# Altium integrated library IC.IntLib: 4 symbols
Pins are listed as number, name and electrical type; pins without a type are passive.

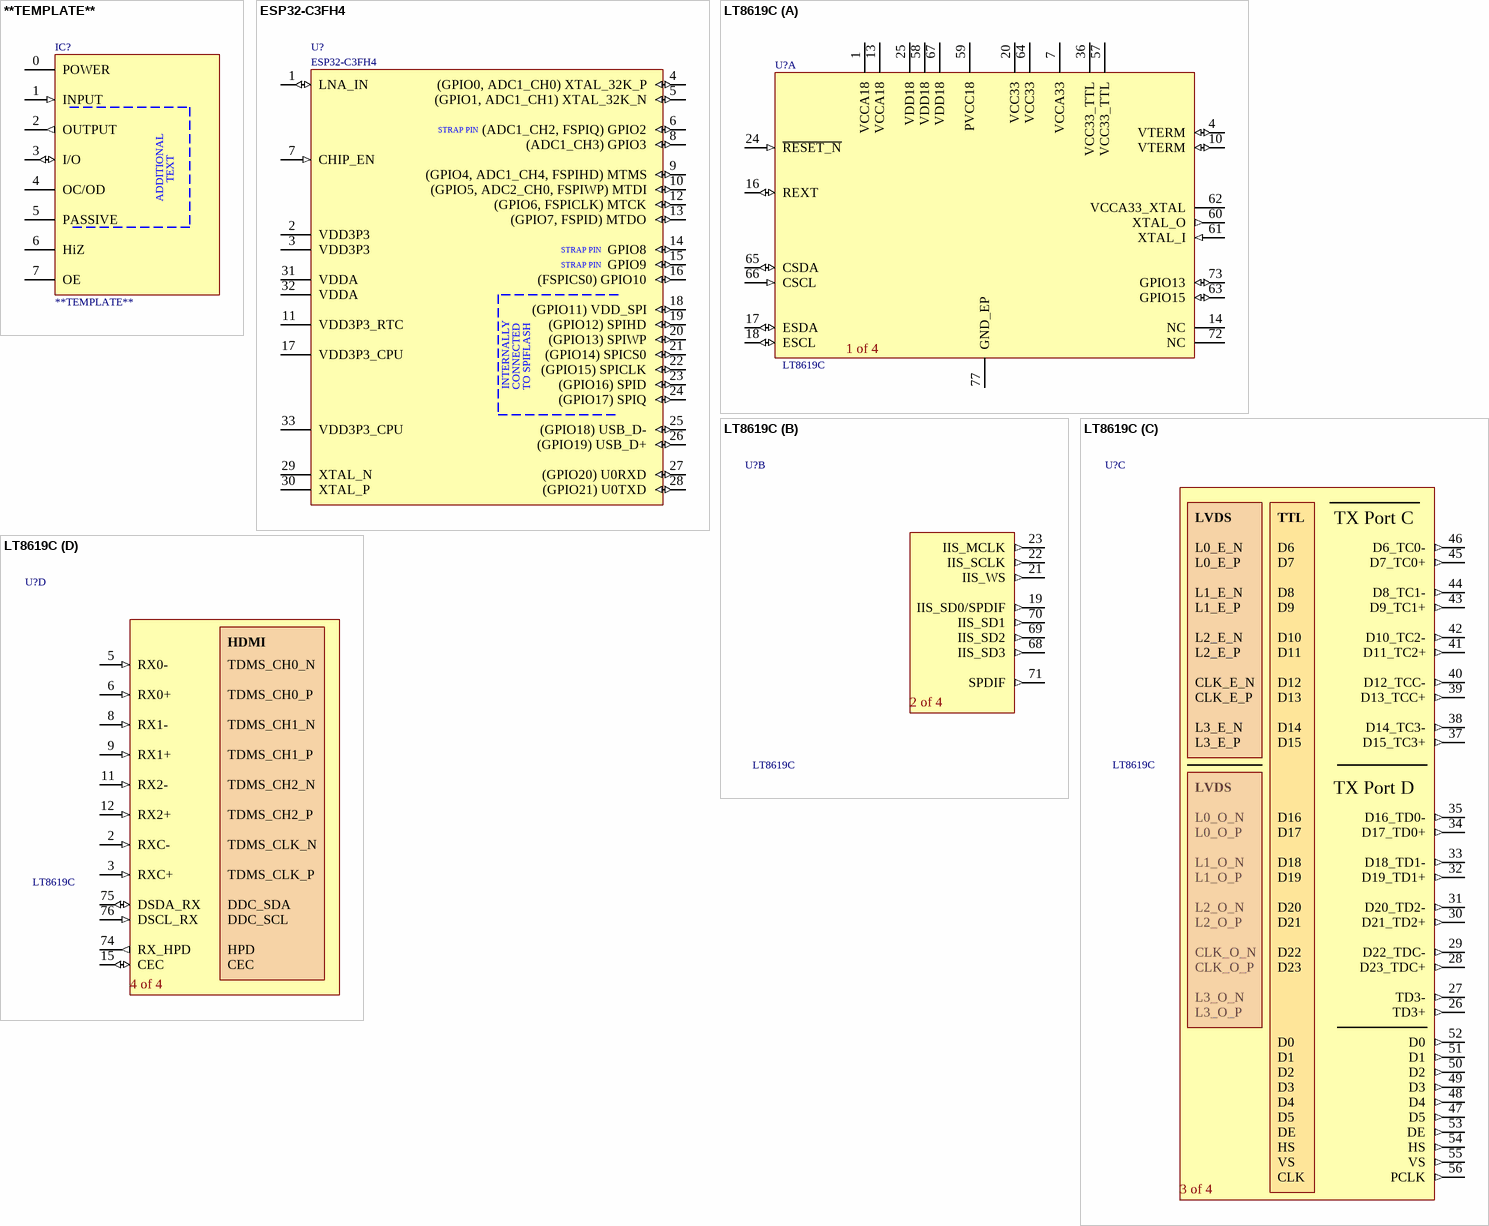
[diagram p0: symbols **TEMPLATE** to LT8619C]

## **TEMPLATE**
designator IC?
PLEASE COPY TO CREATE NEW COMPONENT; Function: *; Package: *; Mounting Type: *; Manufacturer 1: *; Part Number 1: *; Manufacturer 2: *; Part Number 2: *
pins: 0 POWER (power), 1 INPUT (in), 2 OUTPUT (out), 3 I/O (io), 4 OC/OD (oc), 5 PASSIVE (oc), 6 HiZ (hiz), 7 OE (oe)
text: ADDITIONAL; TEXT

## ESP32-C3FH4
designator U?
Ultra-Low-Power SoC with RISC-V Single-Core CPU 2.4 GHz Wi-Fi (802.11b/g/n) and Bluetooth® 5 (LE) 4 MB flash in the chip’s package QFN32 (5×5 mm) package; Manufacturer 1: Espressif; Function: Microcontroller; Package: QFN32 (5x5mm); Mounting Type: SMT; Part Number 1: ESP32-C3FH4; Manufacturer 2: N/A; Part Number 2: N/A
footprint EPS32-C3FH4_QFN32_5X5mm (QFN32 (5×5 mm) package)
pins: 1 LNA_IN (io), 2 VDD3P3 (power), 3 VDD3P3 (power), 4 (GPIO0, ADC1_CH0) XTAL_32K_P (io), 5 (GPIO1, ADC1_CH1) XTAL_32K_N (io), 6 (ADC1_CH2, FSPIQ) GPIO2 (io), 7 CHIP_EN (in), 8 (ADC1_CH3) GPIO3 (io), 9 (GPIO4, ADC1_CH4, FSPIHD) MTMS (io), 10 (GPIO5, ADC2_CH0, FSPIWP) MTDI (io), 11 VDD3P3_RTC (power), 12 (GPIO6, FSPICLK) MTCK (io), 13 (GPIO7, FSPID) MTDO (io), 14 GPIO8 (io), 15 GPIO9 (io), 16 (FSPICS0) GPIO10 (io), 17 VDD3P3_CPU (power), 18 (GPIO11) VDD_SPI (io), 19 (GPIO12) SPIHD (io), 20 (GPIO13) SPIWP (io), 21 (GPIO14) SPICS0 (io), 22 (GPIO15) SPICLK (io), 23 (GPIO16) SPID (io), 24 (GPIO17) SPIQ (io), 25 (GPIO18) USB_D- (io), 26 (GPIO19) USB_D+ (io), 27 (GPIO20) U0RXD (io), 28 (GPIO21) U0TXD (io), 29 XTAL_N, 30 XTAL_P, 31 VDDA (power), 32 VDDA (power), 33 VDD3P3_CPU (power)
text: STRAP PIN; INTERNALLY; CONNECTED; TO SPIFLASH

## LT8619C
designator U?
Lontium LT8619C HDMI to TTL/LVDS Converter; Function: Video signal converter; Package: QFN76 (9x9mm); Mounting Type: SMT; Manufacturer 1: Lontium; Manufacturer 2: N/A; Part Number 2: N/A; Part Number 1: LT8619C
footprint LT8619C_QFN76_9x9MM (HDMI to LVDS,TTL converter)
part A pins: 1 VCCA18 (power), 4 VTERM (io), 7 VCCA33 (power), 10 VTERM (io), 13 VCCA18 (power), 14 NC, 16 REXT (io), 17 ESDA (io), 18 ESCL (io), 20 VCC33 (power), 24 ~{RESET_N} (in), 25 VDD18 (power), 36 VCC33_TTL (power), 57 VCC33_TTL (power), 58 VDD18 (power), 59 PVCC18 (power), 60 XTAL_O (out), 61 XTAL_I (in), 62 VCCA33_XTAL (power), 63 GPIO15 (io), 64 VCC33 (power), 65 CSDA (io), 66 CSCL (in), 67 VDD18 (power), 72 NC, 73 GPIO13 (io), 77 GND_EP (power)
part B pins: 19 IIS_SD0/SPDIF (out), 21 IIS_WS (out), 22 IIS_SCLK (out), 23 IIS_MCLK (out), 68 IIS_SD3 (out), 69 IIS_SD2 (out), 70 IIS_SD1 (out), 71 SPDIF (out)
part C pins: 26 TD3+ (out), 27 TD3- (out), 28 D23_TDC+ (out), 29 D22_TDC- (out), 30 D21_TD2+ (out), 31 D20_TD2- (out), 32 D19_TD1+ (out), 33 D18_TD1- (out), 34 D17_TD0+ (out), 35 D16_TD0- (out), 37 D15_TC3+ (out), 38 D14_TC3- (out), 39 D13_TCC+ (out), 40 D12_TCC- (out), 41 D11_TC2+ (out), 42 D10_TC2- (out), 43 D9_TC1+ (out), 44 D8_TC1- (out), 45 D7_TC0+ (out), 46 D6_TC0- (out), 47 D5 (out), 48 D4 (out), 49 D3 (out), 50 D2 (out), 51 D1 (out), 52 D0 (out), 53 DE (out), 54 HS (out), 55 VS (out), 56 PCLK (out)
part D pins: 2 RXC- (in), 3 RXC+ (in), 5 RX0- (in), 6 RX0+ (in), 8 RX1- (in), 9 RX1+ (in), 11 RX2- (in), 12 RX2+ (in), 15 CEC (io), 74 RX_HPD (out), 75 DSDA_RX (io), 76 DSCL_RX (in)
part A text: 1 of 4
part B text: 2 of 4
part C text: LVDS; TTL; TX Port C; L0_E_N; D6; L0_E_P; D7; L1_E_N; D8; L1_E_P; D9; L2_E_N; D10; L2_E_P; D11; CLK_E_N; D12; CLK_E_P; D13; L3_E_N; D14; L3_E_P; D15; TX Port D; L0_O_N; D16; L0_O_P; D17; L1_O_N; D18; L1_O_P; D19; L2_O_N; D20; L2_O_P; D21; CLK_O_N; D22; CLK_O_P; D23; L3_O_N; L3_O_P; CLK; 3 of 4
part D text: HDMI; TDMS_CH0_N; TDMS_CH0_P; TDMS_CH1_N; TDMS_CH1_P; TDMS_CH2_N; TDMS_CH2_P; TDMS_CLK_N; TDMS_CLK_P; DDC_SDA; DDC_SCL; HPD; 4 of 4

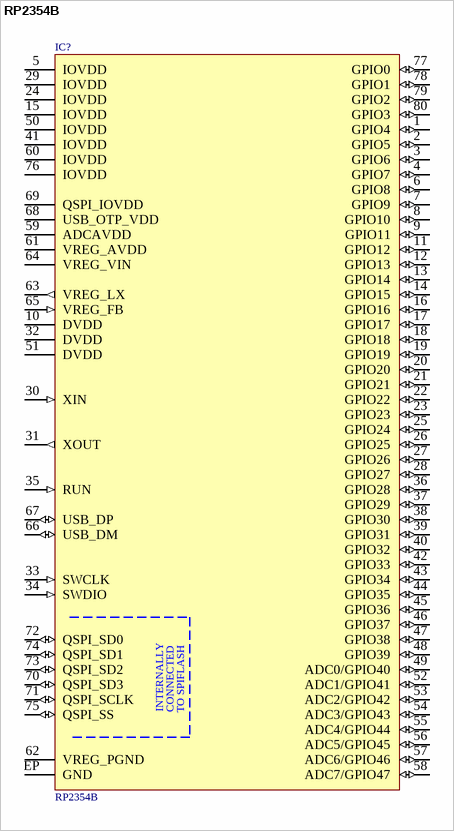
[diagram p1: symbol RP2354B]

## RP2354B
designator IC?
Raspberry Pi RP2354 Microcontrollers (MCUs) are high-performance and secure MCUs with a higher core clock speed, double the on-chip SRAM, and optional RISC-V cores. Integrated 2MB flash.; Function: Microcontroller; Package: QFN80 (10x10mm); Mounting Type: SMT; Manufacturer 1: Raspberry Pi; Part Number 1: RP2354B; Manufacturer 2: N/A; Part Number 2: N/A
footprint RP2354B_QFN80 _10x10mm (Microcontroller)
pins: 1 GPIO4 (io), 2 GPIO5 (io), 3 GPIO6 (io), 4 GPIO7 (io), 5 IOVDD (power), 6 GPIO8 (io), 7 GPIO9 (io), 8 GPIO10 (io), 9 GPIO11 (io), 10 DVDD (power), 11 GPIO12 (io), 12 GPIO13 (io), 13 GPIO14 (io), 14 GPIO15 (io), 15 IOVDD (power), 16 GPIO16 (io), 17 GPIO17 (io), 18 GPIO18 (io), 19 GPIO19 (io), 20 GPIO20 (io), 21 GPIO21 (io), 22 GPIO22 (io), 23 GPIO23 (io), 24 IOVDD (power), 25 GPIO24 (io), 26 GPIO25 (io), 27 GPIO26 (io), 28 GPIO27 (io), 29 IOVDD (power), 30 XIN (in), 31 XOUT (out), 32 DVDD (power), 33 SWCLK (in), 34 SWDIO (in), 35 RUN (in), 36 GPIO28 (io), 37 GPIO29 (io), 38 GPIO30 (io), 39 GPIO31 (io), 40 GPIO32 (io), 41 IOVDD (power), 42 GPIO33 (io), 43 GPIO34 (io), 44 GPIO35 (io), 45 GPIO36 (io), 46 GPIO37 (io), 47 GPIO38 (io), 48 GPIO39 (io), 49 ADC0/GPIO40 (io), 50 IOVDD (power), 51 DVDD (power), 52 ADC1/GPIO41 (io), 53 ADC2/GPIO42 (io), 54 ADC3/GPIO43 (io), 55 ADC4/GPIO44 (io), 56 ADC5/GPIO45 (io), 57 ADC6/GPIO46 (io), 58 ADC7/GPIO47 (io), 59 ADCAVDD (power), 60 IOVDD (power), 61 VREG_AVDD (power), 62 VREG_PGND (power), 63 VREG_LX (out), 64 VREG_VIN (power), 65 VREG_FB (in), 66 USB_DM (io), 67 USB_DP (io), 68 USB_OTP_VDD (power), 69 QSPI_IOVDD (power), 70 QSPI_SD3 (io), 71 QSPI_SCLK (io), 72 QSPI_SD0 (io), 73 QSPI_SD2 (io), 74 QSPI_SD1 (io), 75 QSPI_SS (io), 76 IOVDD (power), 77 GPIO0 (io), 78 GPIO1 (io), 79 GPIO2 (io), 80 GPIO3 (io), EP GND (power)
text: INTERNALLY; CONNECTED; TO SPIFLASH